# EAGLE library part CSD25401Q3 (library NSL_ESC)
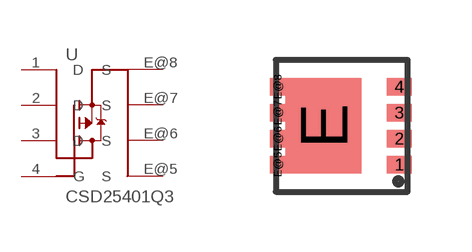
[diagram p2: symbol with the pads of SON-3.3X3.3; footprint SON-3.3X3.3]

Designator prefix -

## CSD25401Q3  [SON-3.3X3.3]
1  D
2  D
3  D
4  G
E@5  S
E@6  S
E@7  S
E@8  S

## Footprint SON-3.3X3.3 (pad centres in mm)
smd 0.63 x 0.44: 1 1.435,-0.975; 2 1.435,-0.325; 3 1.435,0.325; 4 1.435,0.975
smd 1.9 x 2.39: E -0.46,0
smd 0.41 x 0.44: E@5 -1.6,-0.975; E@6 -1.6,-0.325; E@7 -1.6,0.325; E@8 -1.6,0.975